# EAGLE library part MC100E111FNG (library ON_Semiconductor_By_element14_Batch_1)
ECL 1:9 Differential Clock Driver
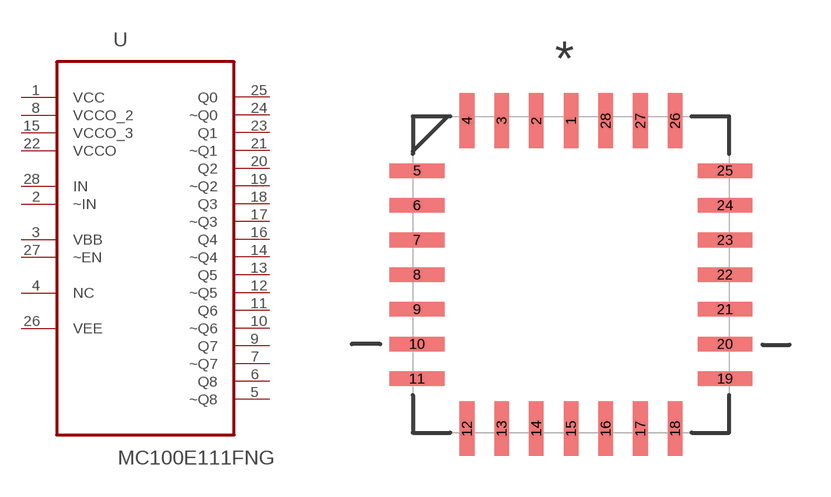
[diagram p76: symbol with the pads of PLCC127P1244X1244X457-28N; footprint PLCC127P1244X1244X457-28N]

Designator prefix U

## MC100E111FNG (MPN: MC100E111FNG; OC_FARNELL: 1192060; OC_NEWARK: 45J0952; PACKAGE: PLCC-28; SUPPLIER: ON Semiconductor)  [PLCC127P1244X1244X457-28N]
1  VCC  pwr
2  ~IN  in
3  VBB  out
4  NC  nc
5  ~Q8  out
6  Q8  out
7  ~Q7  out
8  VCCO_2  pwr
9  Q7  out
10  ~Q6  out
11  Q6  out
12  ~Q5  out
13  Q5  out
14  ~Q4  out
15  VCCO_3  pwr
16  Q4  out
17  ~Q3  out
18  Q3  out
19  ~Q2  out
20  Q2  out
21  ~Q1  out
22  VCCO  pwr
23  Q1  out
24  ~Q0  out
25  Q0  out
26  VEE  pwr
27  ~EN  in
28  IN  in

## Footprint PLCC127P1244X1244X457-28N (pad centres in mm)
smd 0.533 x 2.007: 1 0,5.639; 2 -1.27,5.639; 3 -2.54,5.639; 4 -3.81,5.639; 12 -3.81,-5.639; 13 -2.54,-5.639; 14 -1.27,-5.639; 15 0,-5.639; 16 1.27,-5.639; 17 2.54,-5.639; 18 3.81,-5.639; 26 3.81,5.639; 27 2.54,5.639; 28 1.27,5.639
smd 2.007 x 0.533: 5 -5.639,3.81; 6 -5.639,2.54; 7 -5.639,1.27; 8 -5.639,0; 9 -5.639,-1.27; 10 -5.639,-2.54; 11 -5.639,-3.81; 19 5.639,-3.81; 20 5.639,-2.54; 21 5.639,-1.27; 22 5.639,0; 23 5.639,1.27; 24 5.639,2.54; 25 5.639,3.81